# Altium schematic symbol library ESP32.SchLib: 1 symbol
Pins are listed as number, name and electrical type; pins without a type are passive.

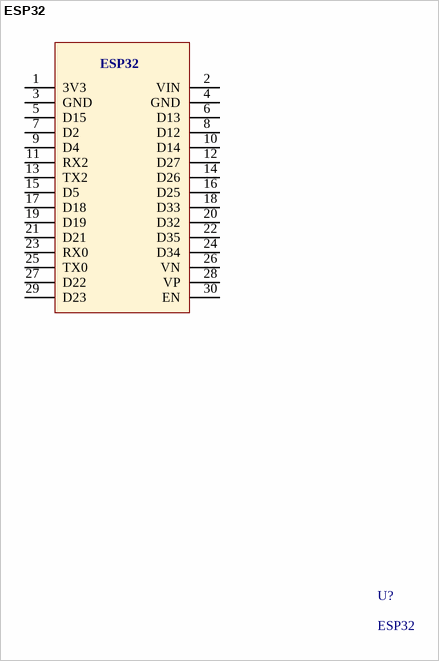
[diagram p0: symbol ESP32]

## ESP32
designator U?
footprint PCBComponent_1
pins: 1 3V3, 2 VIN, 3 GND, 4 GND, 5 D15, 6 D13, 7 D2, 8 D12, 9 D4, 10 D14, 11 RX2, 12 D27, 13 TX2, 14 D26, 15 D5, 16 D25, 17 D18, 18 D33, 19 D19, 20 D32, 21 D21, 22 D35, 23 RX0, 24 D34, 25 TX0, 26 VN, 27 D22, 28 VP, 29 D23, 30 EN